# Altium integrated library Zarlink Comm MODEM Circuit.IntLib: 2 symbols
Pins are listed as number, name and electrical type; pins without a type are passive.

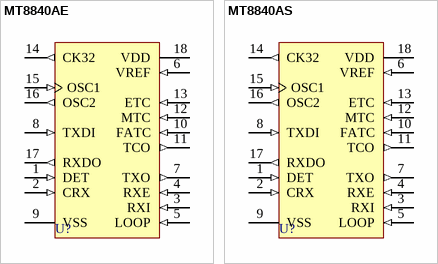
[diagram p0: symbols MT8840AE to MT8840AS]

## MT8840AE
designator U?
Data Over Voice Modem; Published: 8-Jun-2000; LatestRevisionDate: 17-Jul-2002; LatestRevisionNote: Re-released for DXP Platform.; DatasheetVersion: Issue 4 November 1990; PackageVersion: 1997; PackageReference: PDIP18; Publisher: Altium Limited; PackageDescription: DIP; 18 Leads; Row Spacing 7.62 mm; Pitch 2.54 mm; ComponentLink1Description: Manufacturer Link; ComponentLink1URL: http://www.zarlink.com/; ComponentLink2Description: Datasheet; ComponentLink2URL: http://assets.zarlink.com/DS/zarlink_MT8840_MAY_05.pdf
footprint PDIP18 (DIP; 18 Leads; Row Spacing 7.62 mm; Pitch 2.54 mm)
pins: 1 DET (in), 2 CRX (in), 3 RXI (in), 4 RXE (in), 5 LOOP (in), 6 VREF (in), 7 TXO (out), 8 TXDI (in), 9 VSS (power), 10 FATC (in), 11 TCO (out), 12 MTC (in), 13 ETC (in), 14 CK32 (out), 15 OSC1 (in), 16 OSC2 (out), 17 RXDO (out), 18 VDD (power)

## MT8840AS
designator U?
Data Over Voice Modem; Published: 8-Jun-2000; LatestRevisionDate: 13-Apr-2006; LatestRevisionNote: IPC-7351 Footprint Added.; DatasheetVersion: Issue 4 November 1990; PackageVersion: 1997; PackageReference: SOIC18; Publisher: Altium Limited; PackageDescription: 18-Pin Small Outline Integrated Circuit 1.27 mm Pitch; Code_JEDEC: MS-013-AB; ComponentLink1Description: Manufacturer Link; ComponentLink1URL: http://www.zarlink.com/; ComponentLink2Description: Datasheet; ComponentLink2URL: http://assets.zarlink.com/DS/zarlink_MT8840_MAY_05.pdf
footprint SOIC18_N (SOIC, 18-Leads, Body 11.6x7.6mm, Pitch 1.27mm, IPC Medium Density)
footprint SOIC18_L (SOIC, 18-Leads, Body 11.6x7.6mm, Pitch 1.27mm, IPC High Density)
footprint SOIC18_M (SOIC, 18-Leads, Body 11.6x7.6mm, Pitch 1.27mm, IPC Low Density)
pins: 1 DET (in), 2 CRX (in), 3 RXI (in), 4 RXE (in), 5 LOOP (in), 6 VREF (in), 7 TXO (out), 8 TXDI (in), 9 VSS (power), 10 FATC (in), 11 TCO (out), 12 MTC (in), 13 ETC (in), 14 CK32 (out), 15 OSC1 (in), 16 OSC2 (out), 17 RXDO (out), 18 VDD (power)